# Altium footprint library PIC32ETH.PcbLib: 22 footprints (part 1 of 2)
Each footprint in its own frame and in the unit in brackets; x right, y up, seen from the top. Pads: shape width x height; smd on the part's side, far side on the other; paste and mask are expansions set on the pad; w line width, h text height; cw(c..) or ccw(c..) is an arc to the next point about the centre after c.
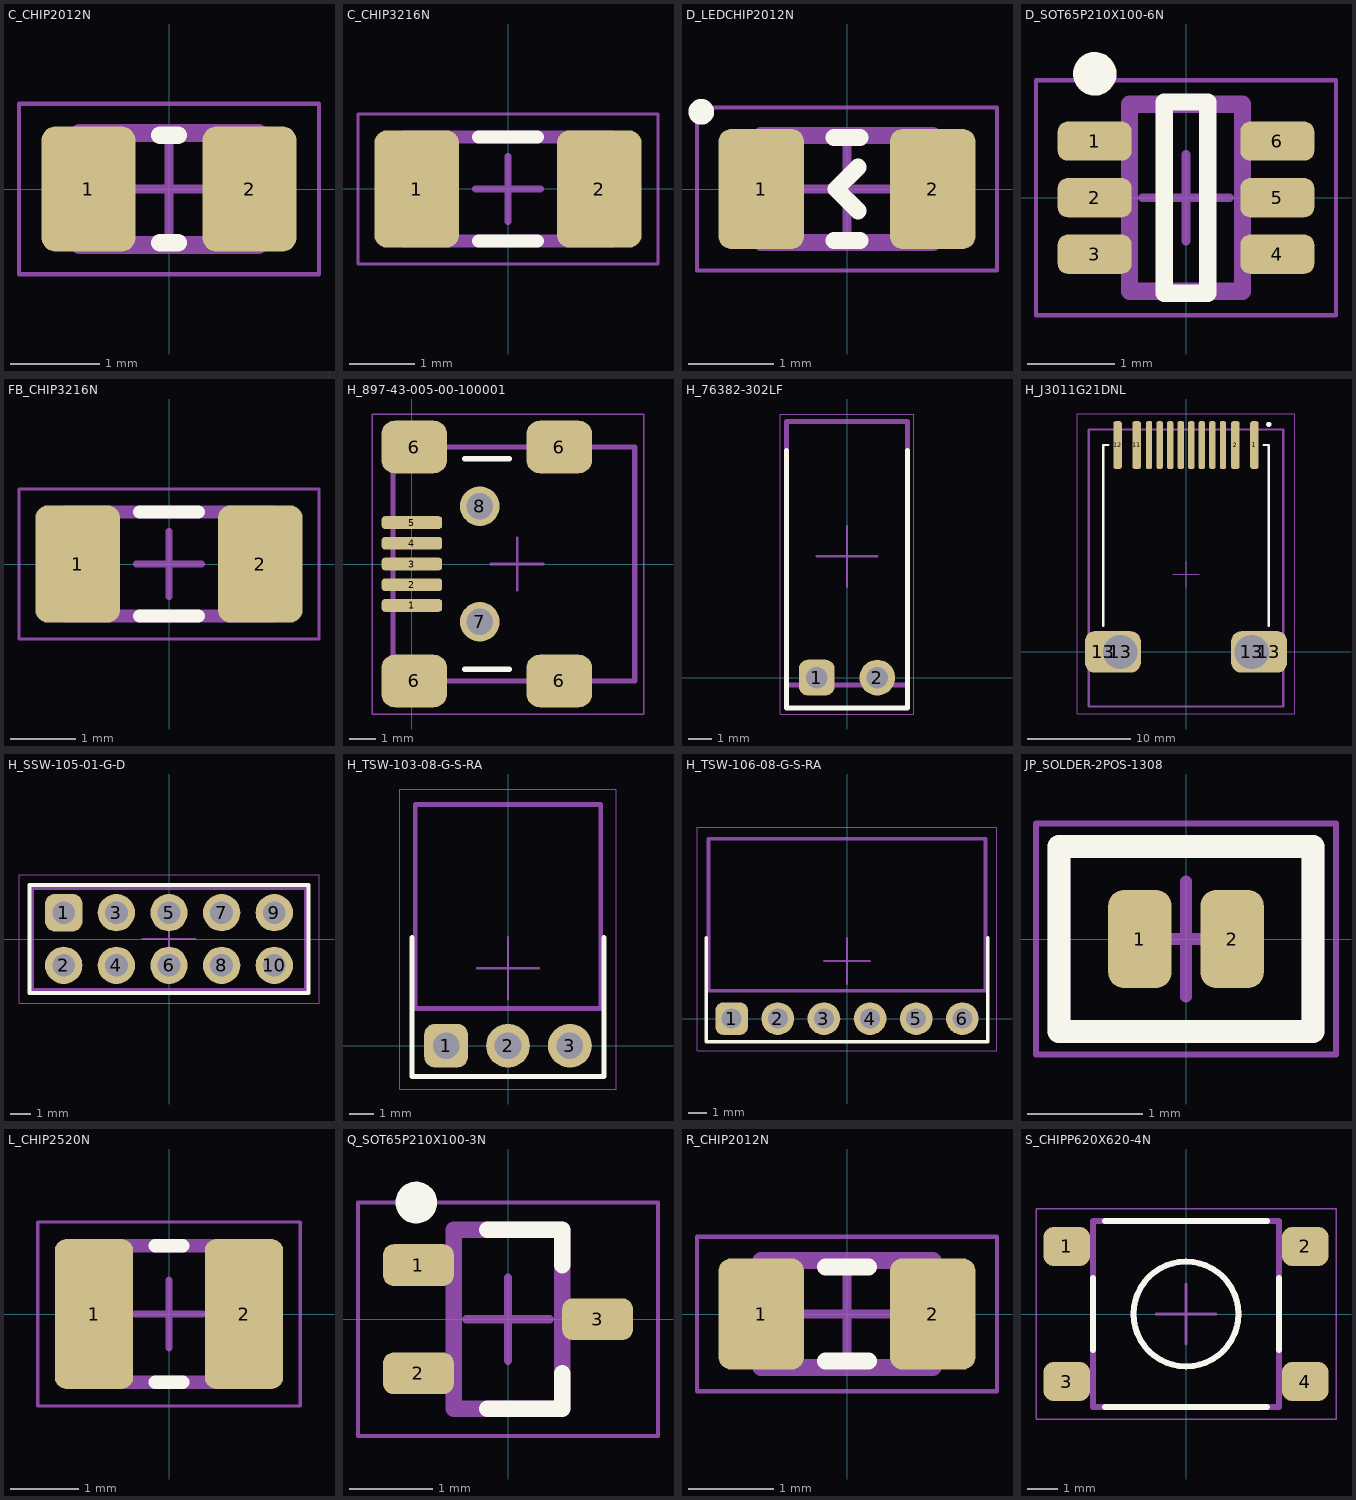
[diagram p0: the footprints below, top view; thin cyan lines are the x and y axes]

## C_CHIP2012N [mm] "Chip Capacitor, 2-Leads, Body 2.00x1.25mm, IPC Medium Density"
height 0.8
pads (2):
  rrect30% 1.05x1.4 smd: 1(-0.9,0) 2(0.9,0)
Top Overlay:
  lines w0.2: -0.1,-0.6 0.1,-0.6 ; -0.1,0.6 0.1,0.6
Top Assembly:
  lines w0.2: -1,-0.625 -1,0.625 1,0.625 1,-0.625 -1,-0.625
Top Component Center:
  lines w0.1: -0.5,0 0.5,0 ; 0,-0.5 0,0.5
Top Courtyard:
  lines w0.05: -1.675,-0.95 1.675,-0.95 1.675,0.95 -1.675,0.95 -1.675,-0.95
3D body "CAPC2012X08N.step": height 0.8, standoff 0, extent -1,-0.625 1,0.625

## C_CHIP3216N [mm] "Chip Capacitor, 2-Leads, Body 3.20x1.60mm, IPC Medium Density"
height 1
pads (2):
  rrect30% 1.3x1.8 smd: 1(-1.4,0) 2(1.4,0)
Top Overlay:
  lines w0.2: -0.45,-0.8 0.45,-0.8 ; -0.45,0.8 0.45,0.8
Top Assembly:
  lines w0.2: -1.6,-0.8 -1.6,0.8 1.6,0.8 1.6,-0.8 -1.6,-0.8
Top Component Center:
  lines w0.1: -0.5,0 0.5,0 ; 0,-0.5 0,0.5
Top Courtyard:
  lines w0.05: -2.3,-1.15 -2.3,1.15 2.3,1.15 2.3,-1.15 -2.3,-1.15
3D body "CAPC3216X10N.step": height 1, standoff 0, extent -1.6,-0.8 1.6,0.8

## D_LEDCHIP2012N [mm] "LED Chip, 2-Leads, Body 3.20x1.60mm, IPC Medium Density"
height 0.75
pads (2):
  rrect30% 1x1.4 smd: 1(-1,0) 2(1,0)
Top Overlay:
  circle w0.2: c-1.7,0.9 r0.05
  lines w0.2: -0.15,-0.6 0.15,-0.6 ; -0.15,0.6 0.15,0.6 ; 0.127,-0.254 -0.127,0 0.127,0.254
Top Assembly:
  lines w0.2: -1,-0.625 -1,0.625 1,0.625 1,-0.625 -1,-0.625
Top Component Center:
  lines w0.1: -0.5,0 0.5,0 ; 0,-0.5 0,0.5
Top Courtyard:
  lines w0.05: -1.75,-0.95 -1.75,0.95 1.75,0.95 1.75,-0.95 -1.75,-0.95
3D body "APT2012.STEP": height 0.74, standoff -0.01, extent -1,-0.625 1,0.625

## D_SOT65P210X100-6N [mm] "SOT-23, 6-Leads, Body 2.15x2.10mm, Pitch 0.65mm, IPC Medium Density"
height 1
pads (6):
  rrect50% 0.85x0.45 smd: 1(-1.05,0.65) 2(-1.05,0) 3(-1.05,-0.65) 4(1.05,-0.65) 5(1.05,0) 6(1.05,0.65)
Top Overlay:
  circle w0.25: c-1.05,1.425 r0.125
  lines w0.2: -0.25,-1.1 0.25,-1.1 0.25,1.1 -0.25,1.1 -0.25,-1.1
Top Assembly:
  lines w0.2: -0.65,-1.075 -0.65,1.075 0.65,1.075 0.65,-1.075 -0.65,-1.075
Top Component Center:
  lines w0.1: -0.5,0 0.5,0 ; 0,-0.5 0,0.5
Top Courtyard:
  lines w0.05: -1.725,-1.35 -1.725,1.35 1.725,1.35 1.725,-1.35 -1.725,-1.35
3D body "SOT65P210X100-6N.step": height 1, standoff 0, extent -1.05,-1.075 1.05,1.075

## FB_CHIP3216N [mm] "Chip Ferrite Bead, 2-Leads, Body 3.20x1.60mm, IPC Medium Density"
height 1.1
pads (2):
  rrect30% 1.3x1.8 smd: 1(-1.4,0) 2(1.4,0)
Top Overlay:
  lines w0.2: -0.45,-0.8 0.45,-0.8 ; -0.45,0.8 0.45,0.8
Top Assembly:
  lines w0.2: -1.6,-0.8 -1.6,0.8 1.6,0.8 1.6,-0.8 -1.6,-0.8
Top Component Center:
  lines w0.1: -0.5,0 0.5,0 ; 0,-0.5 0,0.5
Top Courtyard:
  lines w0.05: -2.3,-1.15 2.3,-1.15 2.3,1.15 -2.3,1.15 -2.3,-1.15
3D body "INDC3216X11N.step": height 1.1, standoff 0, extent -1.6,-0.8 1.6,0.8

## H_897-43-005-00-100001 [mm] "H USB SOCKET B-MINI ANGLE SMT"
height 3.96
pads (11):
  rrect50% 2.3x0.48 smd: 1(0,-1.575) 2(0,-0.787) 3(0,0) 4(0,0.787) 5(0,1.575)
  rrect50% 2.5x2 smd: 6(0.089,-4.445) 6(0.089,4.445) 6(5.601,-4.445) 6(5.601,4.445)
  round 1.5 hole 1: 7(2.578,-2.197) 8(2.578,2.197)
Top Overlay:
  lines w0.2: 2,-4 3.7,-4 ; 2,4 3.7,4
Top Assembly:
  lines w0.2: -0.724,-4.445 8.471,-4.445 8.471,4.445 -0.724,4.445 -0.724,-4.445
Top Component Center:
  lines w0.1: 3,0 5,0 ; 4,-1 4,1
Top Courtyard:
  lines w0.05: -1.5,-5.7 -1.5,5.7 8.8,5.7 8.8,-5.7 -1.5,-5.7
3D body "60r3590_1734035-2.stp": height 4.12, standoff -0.97, extent -0.729,-4.95 8.471,4.95

## H_76382-302LF [mm] "H GENERAL HEADER 2POS 1ROW 2.54mm ANGLE THT"
height 5.08
pads (2):
  rrect50% 1.5x1.5 hole 0.9: 1(-1.27,0)
  round 1.5 hole 0.9: 2(1.27,0)
Top Overlay:
  lines w0.2: -2.54,9.525 -2.54,-1.27 2.54,-1.27 2.54,9.525
Top Assembly:
  lines w0.2: -2.535,-0.308 2.54,-0.308 2.54,10.74 -2.535,10.74 -2.535,-0.308
Top Component Center:
  lines w0.1: -1.27,5.08 1.27,5.08 ; 0,3.81 0,6.35
Top Courtyard:
  lines w0.05: -2.794,-1.524 2.794,-1.524 2.794,11.049 -2.794,11.049 -2.794,-1.524
3D body "76382-402LFc.stp": height 5.35, standoff -3.39, extent -2.495,-0.303 2.495,10.745

## H_J3011G21DNL [mm] "H RJ45 SOCKET 1PORT ANGLE SMT"
height 13.61
pads (16):
  rrect50% 0.81x4.6 smd: 1(6.61,20) 2(4.77,20) 11(-4.77,20) 12(-6.61,20)
  rrect50% 0.61x4.6 smd: 3(3.57,20) 4(2.55,20) 5(1.53,20) 6(0.51,20) 7(-0.51,20) 8(-1.53,20) 9(-2.55,20) 10(-3.57,20)
  rrect50% 3.5x4 smd: 13(-8,0) 13(8,0)
  rrect50% 4x4 hole 3.3: 13(-6.35,0) 13(6.35,0)
Top Overlay:
  circle w0.25: c8,22 r0.125
  lines w0.2: -8,2.5 -8,20 -7.5,20 ; 7.5,20 8,20 8,2.5
Top Assembly:
  lines w0.2: -9.4,-5.257 -9.4,21.488 9.4,21.488 9.4,-5.257 -9.4,-5.257
Top Component Center:
  lines w0.1: -1.27,7.5 1.27,7.5 ; 0,6.23 0,8.77
Top Courtyard:
  lines w0.05: -10.5,-6 -10.5,23 10.5,23 10.5,-6 -10.5,-6
3D body "J3011G21DNL_3D.STEP": height 14.62, standoff -1.07, extent -9.4,-5.257 9.4,21.488

## H_SSW-105-01-G-D [mm] "H GENERAL SOCKET 10POS 2ROW 2.54mm VERTICAL THT"
height 8.509
pads (10):
  rrect50% 1.8x1.8 hole 1.1: 1(-5.08,1.27)
  round 1.8 hole 1.1: 2(-5.08,-1.27) 3(-2.54,1.27) 4(-2.54,-1.27) 5(0,1.27) 6(0,-1.27) 7(2.54,1.27) 8(2.54,-1.27) 9(5.08,1.27) 10(5.08,-1.27)
Top Overlay:
  lines w0.2: -6.731,-2.603 -6.731,2.603 6.731,2.603 6.731,-2.603 -6.731,-2.603
Top Assembly:
  lines w0.2: -6.604,-2.476 -6.604,2.476 6.604,2.476 6.604,-2.476 -6.604,-2.476
Top Component Center:
  lines w0.1: -1.27,0 1.27,0 ; 0,-1.27 0,1.27
Top Courtyard:
  lines w0.05: -7.239,-3.111 -7.239,3.111 7.239,3.111 7.239,-3.111 -7.239,-3.111
3D body "SSW-101-02-G-D.stp": height 8.51, standoff -4.93, extent -6.604,-2.476 -3.556,2.477
3D body "SSW-101-02-G-D.stp": height 8.51, standoff -4.93, extent -4.064,-2.476 -1.016,2.477
3D body "SSW-101-02-G-D.stp": height 8.51, standoff -4.93, extent -1.524,-2.476 1.524,2.477
3D body "SSW-101-02-G-D.stp": height 8.51, standoff -4.93, extent 1.016,-2.476 4.064,2.477
3D body "SSW-101-02-G-D.stp": height 8.51, standoff -4.93, extent 3.556,-2.476 6.604,2.477

## H_TSW-103-08-G-S-RA [mm] "H GENERAL HEADER 3POS 1ROW 2.54mm ANGLE THT"
height 3.048
pads (3):
  rrect50% 1.8x1.8 hole 1.1: 1(-2.54,0)
  round 1.8 hole 1.1: 2(0,0) 3(2.54,0)
Top Overlay:
  lines w0.2: -3.937,4.445 -3.937,-1.27 3.937,-1.27 3.937,4.445
Top Assembly:
  lines w0.2: -3.81,1.524 3.81,1.524 3.81,9.906 -3.81,9.906 -3.81,1.524
Top Component Center:
  lines w0.1: -1.27,3.175 1.27,3.175 ; 0,1.905 0,4.445
Top Courtyard:
  lines w0.05: -4.445,-1.778 4.445,-1.778 4.445,10.541 -4.445,10.541 -4.445,-1.778
3D body "TSW-101-08-G-S-RA.stp": height 3.05, standoff -2.26, extent 1.27,-0.317 3.81,9.906
3D body "TSW-101-08-G-S-RA.stp": height 3.05, standoff -2.26, extent -3.81,-0.317 -1.27,9.906
3D body "TSW-101-08-G-S-RA.stp": height 3.05, standoff -2.26, extent -1.27,-0.317 1.27,9.906

## H_TSW-106-08-G-S-RA [mm] "H GENERAL HEADER 6POS 1ROW 2.54mm ANGLE THT"
height 3.048
pads (6):
  rrect50% 1.8x1.8 hole 1.1: 1(-6.35,0)
  round 1.8 hole 1.1: 2(-3.81,0) 3(-1.27,0) 4(1.27,0) 5(3.81,0) 6(6.35,0)
Top Overlay:
  lines w0.2: -7.747,4.445 -7.747,-1.27 7.747,-1.27 7.747,4.445
Top Assembly:
  lines w0.2: -7.62,1.524 -7.62,9.906 7.62,9.906 7.62,1.524 -7.62,1.524
Top Component Center:
  lines w0.1: -1.27,3.175 1.27,3.175 ; 0,1.905 0,4.445
Top Courtyard:
  lines w0.05: -8.255,-1.778 -8.255,10.541 8.255,10.541 8.255,-1.778 -8.255,-1.778
3D body "TSW-101-08-G-S-RA.stp": height 3.05, standoff -2.26, extent -7.62,-0.317 -5.08,9.906
3D body "TSW-101-08-G-S-RA.stp": height 3.05, standoff -2.26, extent -2.54,-0.317 0,9.906
3D body "TSW-101-08-G-S-RA.stp": height 3.05, standoff -2.26, extent -5.08,-0.317 -2.54,9.906
3D body "TSW-101-08-G-S-RA.stp": height 3.05, standoff -2.26, extent 0,-0.317 2.54,9.906
3D body "TSW-101-08-G-S-RA.stp": height 3.05, standoff -2.26, extent 2.54,-0.317 5.08,9.906
3D body "TSW-101-08-G-S-RA.stp": height 3.05, standoff -2.26, extent 5.08,-0.317 7.62,9.906

## JP_SOLDER-2POS-1308 [mm] "JP SOLDER 2POS 1308"
pads (2):
  rrect50% 0.55x0.85 smd: 1(-0.4,0) 2(0.4,0)
Top Overlay:
  lines w0.2: -1.1,-0.8 1.1,-0.8 1.1,0.8 -1.1,0.8 -1.1,-0.8
Top Assembly:
  lines w0.2: -1.1,-0.8 1.1,-0.8 1.1,0.8 -1.1,0.8 -1.1,-0.8
Top Component Center:
  lines w0.1: -0.5,0 0.5,0 ; 0,-0.5 0,0.5
Top Courtyard:
  lines w0.05: -1.3,-1 1.3,-1 1.3,1 -1.3,1 -1.3,-1

## L_CHIP2520N [mm] "Chip Inductor, 2-Leads, Body 2.50x2.00mm, IPC Medium Density"
height 0.9
pads (2):
  rrect30% 1.15x2.2 smd: 1(-1.1,0) 2(1.1,0)
Top Overlay:
  lines w0.2: -0.2,-1 0.2,-1 ; -0.2,1 0.2,1
Top Assembly:
  lines w0.2: -1.25,-1 -1.25,1 1.25,1 1.25,-1 -1.25,-1
Top Component Center:
  lines w0.1: -0.5,0 0.5,0 ; 0,-0.5 0,0.5
Top Courtyard:
  lines w0.05: -1.925,-1.35 1.925,-1.35 1.925,1.35 -1.925,1.35 -1.925,-1.35
3D body "INDC2520X09N.step": height 0.9, standoff 0, extent -1.25,-1 1.25,1

## Q_SOT65P210X100-3N [mm] "SOT23, 3-Leads, Body 2.15x2.10mm, Pitch 0.65mm, IPC Medium Density"
height 1
pads (3):
  rrect50% 0.85x0.5 smd: 1(-1.075,0.65) 2(-1.075,-0.65) 3(1.075,0)
Top Overlay:
  circle w0.25: c-1.1,1.4 r0.125
  lines w0.2: -0.25,-1.075 0.65,-1.075 0.65,-0.65 ; -0.25,1.075 0.65,1.075 0.65,0.65
Top Assembly:
  lines w0.2: -0.65,-1.075 0.65,-1.075 0.65,1.075 -0.65,1.075 -0.65,-1.075
Top Component Center:
  lines w0.1: -0.5,0 0.5,0 ; 0,-0.5 0,0.5
Top Courtyard:
  lines w0.05: -1.8,-1.4 1.8,-1.4 1.8,1.4 -1.8,1.4 -1.8,-1.4
3D body "SOT65P210X100-3N.step": height 1, standoff 0, extent -1.05,-1.075 1.05,1.075

## R_CHIP2012N [mm] "Chip Resistor, 2-Leads, Body 2.00x1.25mm, IPC Medium Density"
height 0.5
pads (2):
  rrect30% 1x1.3 smd: 1(-1,0) 2(1,0)
Top Overlay:
  lines w0.2: -0.25,-0.55 0.25,-0.55 ; -0.25,0.55 0.25,0.55
Top Assembly:
  lines w0.2: -1,-0.625 -1,0.625 1,0.625 1,-0.625 -1,-0.625
Top Component Center:
  lines w0.1: -0.5,0 0.5,0 ; 0,-0.5 0,0.5
Top Courtyard:
  lines w0.05: -1.75,-0.9 1.75,-0.9 1.75,0.9 -1.75,0.9 -1.75,-0.9
3D body: height 0.5, standoff 0, extent 0.65,-0.625 1,0.625
3D body: height 0.5, standoff 0, extent -0.65,-0.625 0.65,0.625
3D body: height 0.5, standoff 0, extent -1,-0.625 -0.65,0.625

## S_CHIPP620X620-4N [mm] "Chip, 4-Leads, Body 6.20x6.20mm, IPC Medium Density"
height 4.3
pads (4):
  rrect50% 1.55x1.3 smd: 1(-3.975,2.25) 2(3.975,2.25) 3(-3.975,-2.25) 4(3.975,-2.25)
Top Overlay:
  circle w0.2: c0,0 r1.75
  lines w0.2: -3.1,-1.2 -3.1,1.2 ; -2.7,-3.1 2.7,-3.1 ; -2.7,3.1 2.7,3.1 ; 3.1,-1.2 3.1,1.2
Top Assembly:
  circle w0.2: c0,0 r1.75
  lines w0.2: -3.1,-3.1 3.1,-3.1 3.1,3.1 -3.1,3.1 -3.1,-3.1
Top Component Center:
  lines w0.1: -1,0 1,0 ; 0,-1 0,1
Top Courtyard:
  lines w0.05: -5,-3.5 5,-3.5 5,3.5 -5,3.5 -5,-3.5
3D body "Tact Switch SMD 6x6mm.stp": height 4.3, standoff 0, extent -4.5,-3.1 4.5,3.1